# EAGLE library part DUAL-MOSFET-PCHANNEL (library Cool_Electricity)
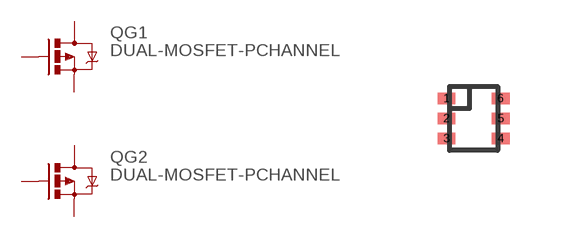
[diagram p9: symbol with the pads of SOT-563_ON; footprint SOT-563_ON]

Designator prefix Q; gates G1=MOSFET-PCHANNEL G2=MOSFET-PCHANNEL

## DUAL-MOSFET-PCHANNELSOT563  [SOT-563_ON]
1  G1:S  pas
2  G1:G  pas
3  G2:D  pas
4  G2:S  pas
5  G2:G  pas
6  G1:D  pas

## Footprint SOT-563_ON (pad centres in mm)
smd 0.45 x 0.3: 1 -0.675,0.5; 2 -0.675,0; 3 -0.675,-0.5; 4 0.675,-0.5; 5 0.675,0; 6 0.675,0.5